# EAGLE library part SAM-M8Q (library ubloxLib)
u-blox SAM GNSS antenna module
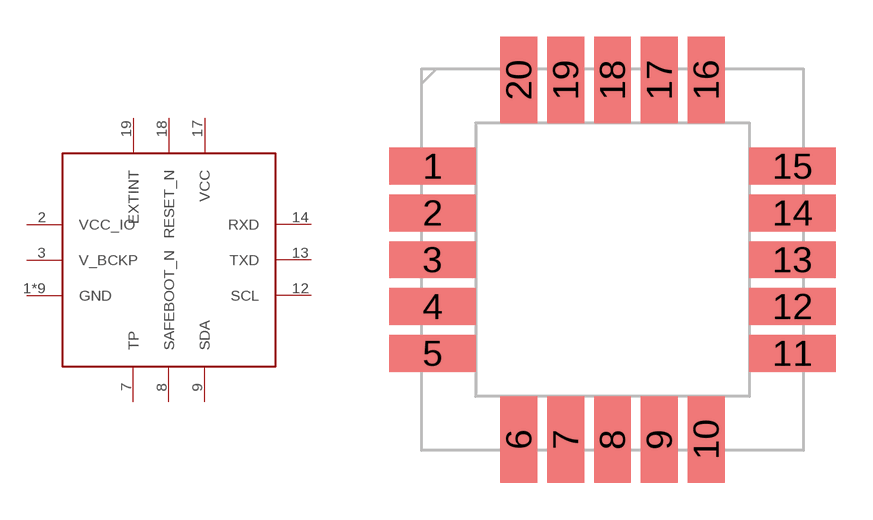
[diagram p17: symbol with the pads of SAM-M8Q; footprint SAM-M8Q]

Designator prefix IC

## SAM-M8Q  [SAM-M8Q]
1  GND
2  VCC_IO
3  V_BCKP
4  GND
5  GND
6  GND
7  TP
8  SAFEBOOT_N
9  SDA
10  GND
11  GND
12  SCL
13  TXD
14  RXD
15  GND
16  GND
17  VCC
18  RESET_N
19  EXTINT
20  GND

## Footprint SAM-M8Q (pad centres in mm)
smd 3.5 x 1.5: 1 -7.3,3.8; 2 -7.3,1.9; 3 -7.3,0; 4 -7.3,-1.9; 5 -7.3,-3.8; 11 7.3,-3.8; 12 7.3,-1.9; 13 7.3,0; 14 7.3,1.9; 15 7.3,3.8
smd 1.5 x 3.5: 6 -3.8,-7.3; 7 -1.9,-7.3; 8 0,-7.3; 9 1.9,-7.3; 10 3.8,-7.3; 16 3.8,7.3; 17 1.9,7.3; 18 0,7.3; 19 -1.9,7.3; 20 -3.8,7.3